# Altium footprint library WiFiModules.PcbLib: 1 footprints
Each footprint in its own frame and in the unit in brackets; x right, y up, seen from the top. Pads: shape width x height; smd on the part's side, far side on the other; paste and mask are expansions set on the pad; w line width, h text height; cw(c..) or ccw(c..) is an arc to the next point about the centre after c.
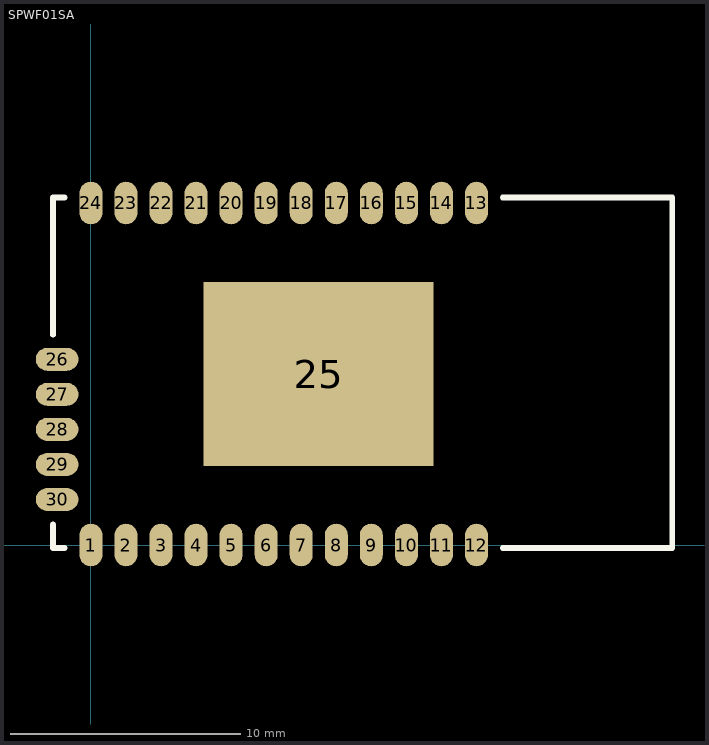
[diagram p0: the footprint, top view; thin cyan lines are the x and y axes]

## SPWF01SA [mm] "Serial-to-Wi-Fi b/g/n intelligent module"
height 2.35
pads (30):
  rrect100% 1x1.85 smd: 1(0,0) 2(1.524,0) 3(3.048,0) 4(4.572,0) 5(6.096,0) 6(7.62,0) 7(9.144,0) 8(10.668,0) 9(12.192,0) 10(13.716,0) 11(15.24,0) 12(16.764,0) 13(16.764,14.87) 14(15.24,14.87) 15(13.716,14.87) 16(12.192,14.87) 17(10.668,14.87) 18(9.144,14.87) 19(7.62,14.87) 20(6.096,14.87) 21(4.572,14.87) 22(3.048,14.87) 23(1.524,14.87) 24(0,14.87)
  rect 10x8 smd: 25(9.9,7.435)
  rrect100% 1.85x1 smd: 26(-1.47,8.076) 27(-1.47,6.552) 28(-1.47,5.028) 29(-1.47,3.504) 30(-1.47,1.98)
Top Overlay:
  lines w0.254: -1.651,0.889 -1.651,-0.127 -1.143,-0.127 ; -1.651,9.144 -1.651,15.113 -1.143,15.113 ; 17.907,-0.127 25.273,-0.127 25.273,15.113 17.907,15.113
3D body: height 2.35, standoff -0.01, extent -1.651,-0.127 25.273,15.113